# EAGLE library part BMA180-BOB (library aq_pcb_v2)
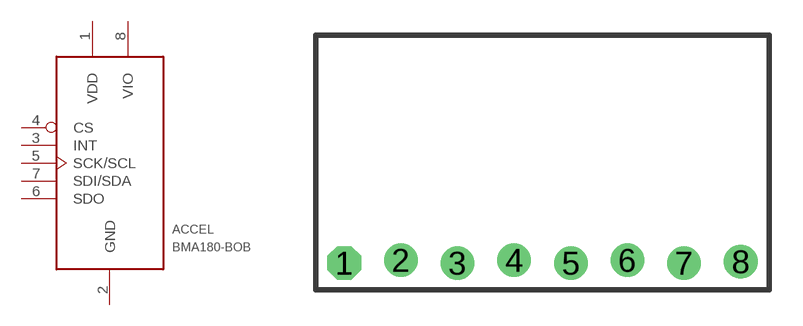
[diagram p1: symbol with the pads of BMA180-BOB; footprint BMA180-BOB]

Designator prefix ACCEL

## BMA180-BOB  [BMA180-BOB]
1  VDD  pwr
2  GND  pwr
3  INT  out
4  CS  in
5  SCK/SCL
6  SDO  out
7  SDI/SDA
8  VIO  pwr

## Footprint BMA180-BOB (pad centres in mm)
drill 1 octagon: 1 -8.89,-0.064
drill 1 round: 2 -6.35,0.064; 3 -3.81,-0.064; 4 -1.27,0.064; 5 1.27,-0.064; 6 3.81,0.064; 7 6.35,-0.064; 8 8.89,0